# Altium footprint library ddrlegobrick.PcbLib: 29 footprints (part 2 of 2)
Each footprint in its own frame and in the unit in brackets; x right, y up, seen from the top. Pads: shape width x height; smd on the part's side, far side on the other; paste and mask are expansions set on the pad; w line width, h text height; cw(c..) or ccw(c..) is an arc to the next point about the centre after c.
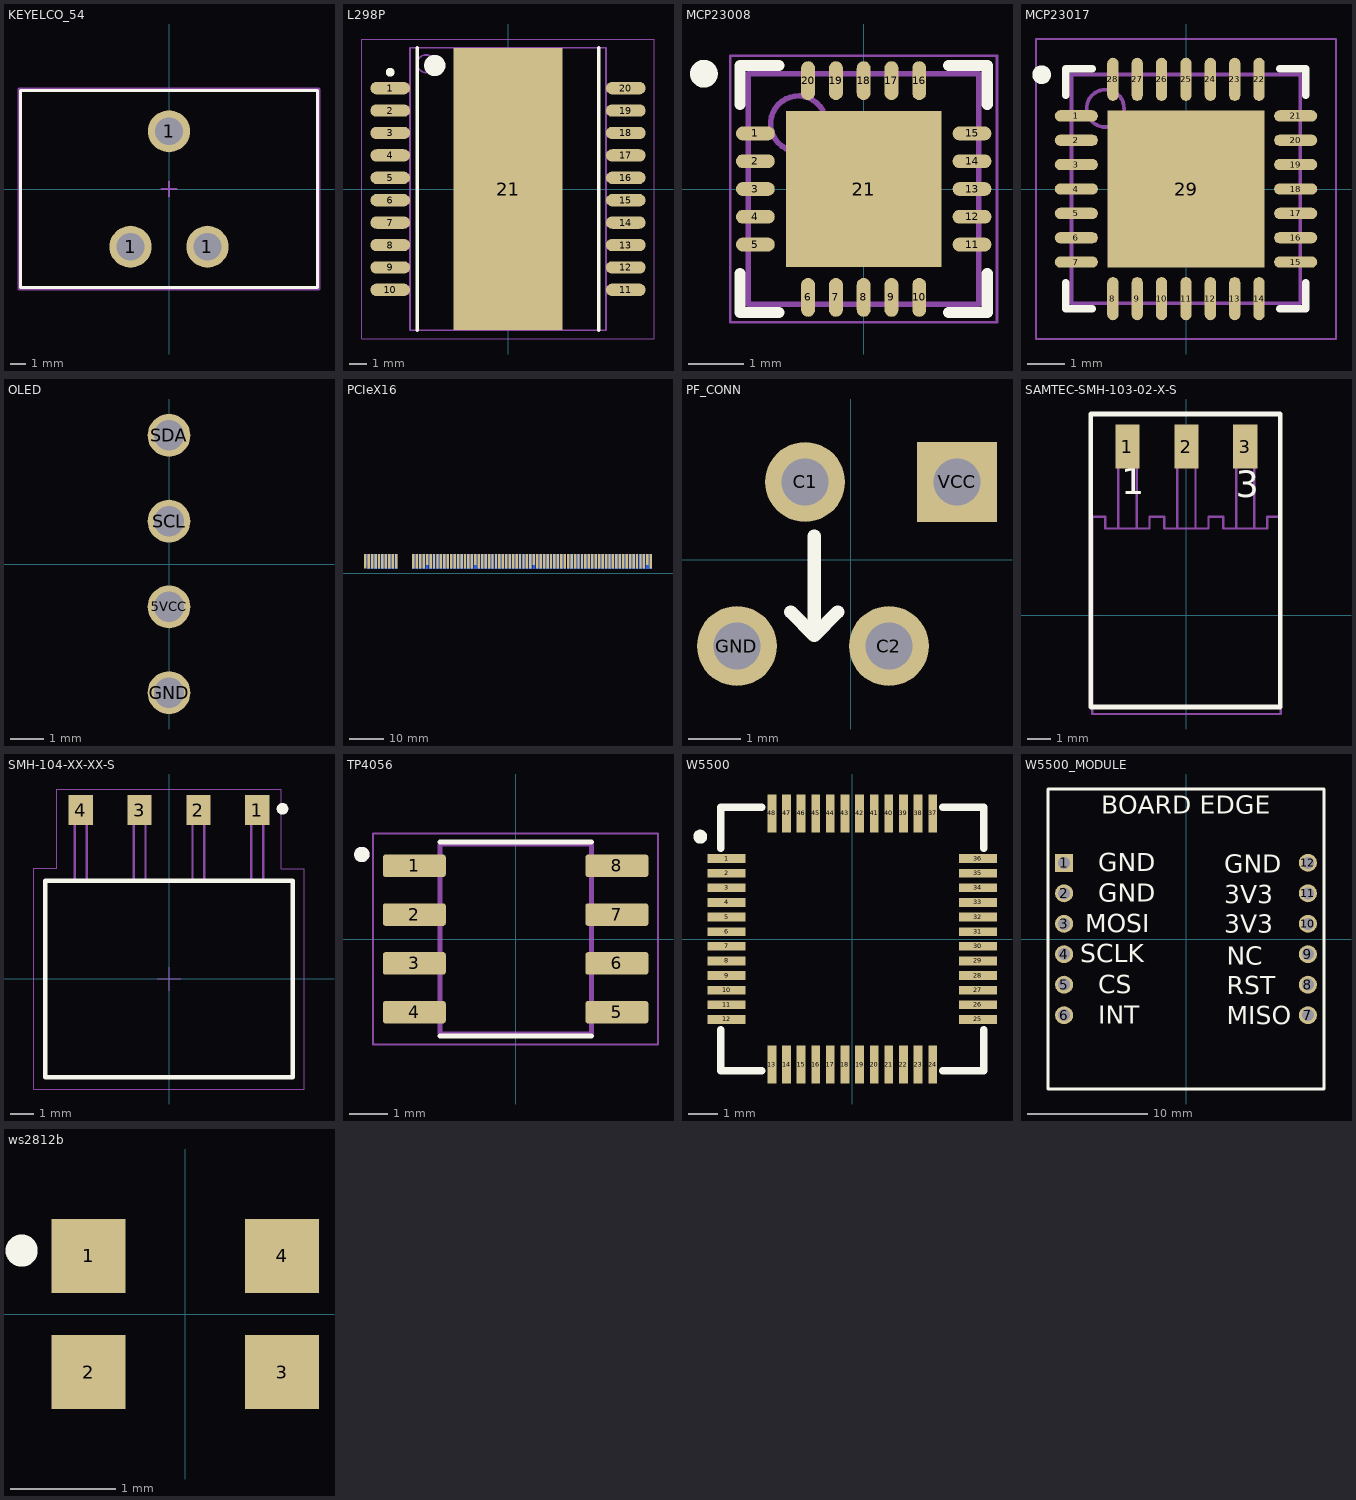
[diagram p1: the footprints below, top view; thin cyan lines are the x and y axes]

## KEYELCO_54 [mm]
pads (3):
  round 2.78 hole 1.83 paste-1000 mask+0: 1(-2.54,-3.81) 1(0,3.81) 1(2.54,-3.81)
Top Overlay:
  lines w0.2: -9.8,-6.5 -9.8,6.5 9.8,6.5 9.8,-6.5 -9.8,-6.5
Top 3D Body:
  lines w0.2: -9.8,-6.5 -9.8,6.5 9.8,6.5 9.8,-6.5 -9.8,-6.5
Top Courtyard:
  lines w0.2: -9.9,-6.6 -9.9,6.6 9.9,6.6 9.9,-6.6 -9.9,-6.6
Top Assembly:
  lines w0.2: -9.9,-6.6 -9.9,6.6 9.9,6.6 9.9,-6.6 -9.9,-6.6
  text ".Designator" at 0,0 h1
Top Component Center:
  lines w0.1: -0.5,0 0.5,0 ; 0,-0.5 0,0.5
3D body "KEYELCO_54.STEP": height 18.16, standoff -3.05, extent -9.443,-5.587 9.444,7.42

## L298P [mm] "SOIC, 20-Leads, Body 16x11.1mm, Pitch 1.27mm, Thermal Pad 16x6.2mm, IPC Low Density"
height 3.6
pads (21):
  oval 2.25x0.7 smd: 1(-6.675,5.715) 2(-6.675,4.445) 3(-6.675,3.175) 4(-6.675,1.905) 5(-6.675,0.635) 6(-6.675,-0.635) 7(-6.675,-1.905) 8(-6.675,-3.175) 9(-6.675,-4.445) 10(-6.675,-5.715) 11(6.675,-5.715) 12(6.675,-4.445) 13(6.675,-3.175) 14(6.675,-1.905) 15(6.675,-0.635) 16(6.675,0.635) 17(6.675,1.905) 18(6.675,3.175) 19(6.675,4.445) 20(6.675,5.715)
  rect 6.2x16 smd: 21(0,0)
Top Overlay:
  circle w0.6: c-4.15,7 r0.3
  circle w0.25: c-6.675,6.615 r0.125
  lines w0.2: -5.15,-8 -5.15,8 ; 5.15,-8 5.15,8
Mechanical 13:
  circle w0.1: c-4.65,7.1 r0.5
  lines w0.1: -5.55,-8 5.55,-8 5.55,8 -5.55,8 -5.55,-8
Mechanical 15:
  lines w0.05: -8.3,-8.5 8.3,-8.5 8.3,8.5 -8.3,8.5 -8.3,-8.5
  lines w0.1: -0.5,0 0.5,0 ; 0,-0.5 0,0.5
3D body "SOIC127P1420X360_HS-21M.step": height 3.6, standoff 0, extent -7.1,-8 7.1,8

## MCP23008 [mm] "QFN, 20-Leads, Body 4x4mm, Pitch 0.5mm, Thermal Pad 2.8x2.8mm, IPC High Density"
height 1
pads (21):
  oval 0.7x0.25 smd: 1(-1.95,1) 2(-1.95,0.5) 3(-1.95,0) 4(-1.95,-0.5) 5(-1.95,-1) 11(1.95,-1) 12(1.95,-0.5) 13(1.95,0) 14(1.95,0.5) 15(1.95,1)
  oval 0.25x0.7 smd: 6(-1,-1.95) 7(-0.5,-1.95) 8(0,-1.95) 9(0.5,-1.95) 10(1,-1.95) 16(1,1.95) 17(0.5,1.95) 18(0,1.95) 19(-0.5,1.95) 20(-1,1.95)
  rect 2.8x2.8 smd: 21(0,0)
Top Overlay:
  circle w0.25: c-2.875,2.075 r0.125
  lines w0.2: -2.225,-1.525 -2.225,-2.225 -1.525,-2.225 ; -2.225,1.525 -2.225,2.225 -1.525,2.225 ; 1.525,-2.225 2.225,-2.225 2.225,-1.525 ; 1.525,2.225 2.225,2.225 2.225,1.525
Mechanical 13:
  circle w0.1: c-1.175,1.175 r0.5
  lines w0.1: -2.075,-2.075 -2.075,2.075 2.075,2.075 2.075,-2.075 -2.075,-2.075
Mechanical 15:
  lines w0.05: -2.4,-2.4 -2.4,2.4 2.4,2.4 2.4,-2.4 -2.4,-2.4
  lines w0.1: -0.5,0 0.5,0 ; 0,-0.5 0,0.5
3D body: height 1, standoff 0, extent -2.075,-2.075 2.075,2.075

## MCP23017 [mm] "QFN, 28-Leads, Body 6x6mm, Pitch 0.65mm, Thermal Pad 4.2x4.2mm, IPC Low Density"
height 1
pads (29):
  oval 1.15x0.3 smd: 1(-2.925,1.95) 2(-2.925,1.3) 3(-2.925,0.65) 4(-2.925,0) 5(-2.925,-0.65) 6(-2.925,-1.3) 7(-2.925,-1.95) 15(2.925,-1.95) 16(2.925,-1.3) 17(2.925,-0.65) 18(2.925,0) 19(2.925,0.65) 20(2.925,1.3) 21(2.925,1.95)
  oval 0.3x1.15 smd: 8(-1.95,-2.925) 9(-1.3,-2.925) 10(-0.65,-2.925) 11(0,-2.925) 12(0.65,-2.925) 13(1.3,-2.925) 14(1.95,-2.925) 22(1.95,2.925) 23(1.3,2.925) 24(0.65,2.925) 25(0,2.925) 26(-0.65,2.925) 27(-1.3,2.925) 28(-1.95,2.925)
  rect 4.2x4.2 smd: 29(0,0)
Top Overlay:
  circle w0.25: c-3.85,3.05 r0.125
  lines w0.2: -3.2,-2.5 -3.2,-3.2 -2.5,-3.2 ; -3.2,2.5 -3.2,3.2 -2.5,3.2 ; 2.5,-3.2 3.2,-3.2 3.2,-2.5 ; 2.5,3.2 3.2,3.2 3.2,2.5
Mechanical 13:
  circle w0.1: c-2.15,2.15 r0.5
  lines w0.1: -3.05,-3.05 -3.05,3.05 3.05,3.05 3.05,-3.05 -3.05,-3.05
Mechanical 15:
  lines w0.05: -4,-4 -4,4 4,4 4,-4 -4,-4
  lines w0.1: -0.5,0 0.5,0 ; 0,-0.5 0,0.5
3D body: height 1, standoff 0, extent -3.05,-3.05 3.05,3.05

## OLED [mm]
pads (4):
  round 1.27 hole 0.9: 5VCC(0,-1.27) GND(0,-3.81) SCL(0,1.27) SDA(0,3.81)
3D body "4-Pin Header - Female - 2.54mm.step": height 5, standoff -3, extent -1.25,-5.33 1.25,5.33

## PCIeX16 [mm]
pads (160):
  rect 0.7x3.2 smd far side: A1(45.65,4)
  rect 0.7x4.2 smd far side: A2(46.65,3.5) A3(47.65,3.5) A4(48.65,3.5) A5(49.65,3.5) A6(50.65,3.5) A7(51.65,3.5) A8(52.65,3.5) A9(53.65,3.5) A10(54.65,3.5) A13(59.65,3.5) A14(60.65,3.5) A15(61.65,3.5) A16(62.65,3.5) A17(63.65,3.5) A18(64.65,3.5) A19(65.65,3.5) A20(66.65,3.5) A21(67.65,3.5) A22(68.65,3.5) A23(69.65,3.5) A24(70.65,3.5) A25(71.65,3.5) A26(72.65,3.5) A27(73.65,3.5) A28(74.65,3.5) A29(75.65,3.5) A30(76.65,3.5) A31(77.65,3.5) A32(78.65,3.5) A33(79.65,3.5) A34(80.65,3.5) A35(81.65,3.5) A36(82.65,3.5) A37(83.65,3.5) A38(84.65,3.5) A39(85.65,3.5) A40(86.65,3.5) A41(87.65,3.5) A42(88.65,3.5) A43(89.65,3.5) A44(90.65,3.5) A45(91.65,3.5) A46(92.65,3.5) A47(93.65,3.5) A48(94.65,3.5) A49(95.65,3.5) A50(96.65,3.5) A51(97.65,3.5) A52(98.65,3.5) A53(99.65,3.5) A54(100.65,3.5) A55(101.65,3.5) A56(102.65,3.5) A57(103.65,3.5) A58(104.65,3.5) A59(105.65,3.5) A60(106.65,3.5) A61(107.65,3.5) A62(108.65,3.5) A63(109.65,3.5) A64(110.65,3.5) A65(111.65,3.5) A66(112.65,3.5) A67(113.65,3.5) A68(114.65,3.5) A69(115.65,3.5) A70(116.65,3.5) A71(117.65,3.5) A72(118.65,3.5) A73(119.65,3.5) A74(120.65,3.5) A75(121.65,3.5) A76(122.65,3.5) A77(123.65,3.5) A78(124.65,3.5) A79(125.65,3.5) A80(126.65,3.5) A81(127.65,3.5) A82(128.65,3.5)
  rect 0.7x4.2 smd: B1(45.65,3.5) B2(46.65,3.5) B3(47.65,3.5) B4(48.65,3.5) B5(49.65,3.5) B6(50.65,3.5) B7(51.65,3.5) B8(52.65,3.5) B9(53.65,3.5) B10(54.65,3.5) B13(59.65,3.5) B14(60.65,3.5) B15(61.65,3.5) B16(62.65,3.5) B18(64.65,3.5) B19(65.65,3.5) B20(66.65,3.5) B21(67.65,3.5) B22(68.65,3.5) B23(69.65,3.5) B24(70.65,3.5) B25(71.65,3.5) B26(72.65,3.5) B27(73.65,3.5) B28(74.65,3.5) B29(75.65,3.5) B30(76.65,3.5) B32(78.65,3.5) B33(79.65,3.5) B34(80.65,3.5) B35(81.65,3.5) B36(82.65,3.5) B37(83.65,3.5) B38(84.65,3.5) B39(85.65,3.5) B40(86.65,3.5) B41(87.65,3.5) B42(88.65,3.5) B43(89.65,3.5) B44(90.65,3.5) B45(91.65,3.5) B46(92.65,3.5) B47(93.65,3.5) B49(95.65,3.5) B50(96.65,3.5) B51(97.65,3.5) B52(98.65,3.5) B53(99.65,3.5) B54(100.65,3.5) B55(101.65,3.5) B56(102.65,3.5) B57(103.65,3.5) B58(104.65,3.5) B59(105.65,3.5) B60(106.65,3.5) B61(107.65,3.5) B62(108.65,3.5) B63(109.65,3.5) B64(110.65,3.5) B65(111.65,3.5) B66(112.65,3.5) B67(113.65,3.5) B68(114.65,3.5) B69(115.65,3.5) B70(116.65,3.5) B71(117.65,3.5) B72(118.65,3.5) B73(119.65,3.5) B74(120.65,3.5) B75(121.65,3.5) B76(122.65,3.5) B77(123.65,3.5) B78(124.65,3.5) B79(125.65,3.5) B80(126.65,3.5) B82(128.65,3.5)
  rect 0.7x3.2 smd: B17(63.65,4) B31(77.65,4) B48(94.65,4) B81(127.65,4)
Top Solder:
  rectangle: 44.75,-0.25 129.55,5.725
Bottom Solder:
  rectangle: 44.75,-0.25 129.55,5.725

## PF_CONN [mm] "PF connector based on the RC brick design"
pads (4):
  round 1.524 hole 0.9: C1(-0.875,1.48) C2(0.725,-1.65) GND(-2.175,-1.65)
  rect 1.524x1.524 hole 0.9: VCC(2.025,1.48)
Top Overlay:
  lines w0.254: -1.15,-1 -0.7,-1.45 ; -0.7,0.45 -0.7,-1.45 ; -0.25,-1 -0.7,-1.45
3D body "1x1_TH_Vert_100mil_updated.STEP": height 9.38, standoff -2.3, extent -3.445,-2.92 -0.905,-0.38
3D body "1x1_TH_Vert_100mil_updated.STEP": height 9.38, standoff -2.3, extent 0.755,0.21 3.295,2.75
3D body "1x1_TH_Vert_100mil_updated.STEP": height 9.38, standoff -2.3, extent -2.145,0.21 0.395,2.75
3D body "1x1_TH_Vert_100mil_updated.STEP": height 9.38, standoff -2.3, extent -0.545,-2.92 1.995,-0.38

## SAMTEC-SMH-103-02-X-S [mil]
pads (3):
  rect 40.95x75.2 smd: 1(-100,286.5) 2(0,286.5) 3(100,286.5)
Top Overlay:
  lines w7.87: -162.4,-155.51 -162.4,341.85 159.45,341.85 159.45,-155.51 -162.4,-155.51
  text "1" at -110.24,189.96 h77.5
  text "3" at 83.66,185.04 h77.5
Top Paste:
  rectangle: -120.47,248.9 -79.53,324.09
  rectangle: -20.47,248.9 20.47,324.09
  rectangle: 79.53,248.9 120.47,324.09
Top Solder:
  rectangle: -122.48,246.89 -77.52,326.1
  rectangle: -22.48,246.89 22.48,326.1
  rectangle: 77.52,246.89 122.48,326.1
Top Component Center:
  lines w3.94: -115.51,147.48 -115.51,302.52 -84.49,302.52 -84.49,147.48 ; -15.51,147.48 -15.51,302.52 15.51,302.52 15.51,147.48 ; 84.49,147.48 84.49,302.52 115.51,302.52 115.51,147.48 ; -160,-167.48 -50,-167.48 50,-167.48 160,-167.48 160,167.48 137.48,167.48 137.48,147.48 62.52,147.48 62.52,167.48 50,167.48 37.48,167.48 37.48,147.48 -37.48,147.48 -37.48,167.48 -50,167.48 -62.52,167.48 -62.52,147.48 -137.48,147.48 -137.48,167.48 -160,167.48 -160,-167.48
  text "1" at -231.65,261.5 h77.5
  text "3" at 191.14,261.5 h77.5
3D body "SMH-103-02-G-S.stp": height 95.5, standoff 0.5, extent -160,-154.88 160,315.12

## SMH-104-XX-XX-S [mm] "2.54mm pitch, socket assembly; horizontal, single row, SMT"
height 4.95
pads (4):
  rect 1.05x1.3 smd mask+0: 1(3.81,7.29) 2(1.27,7.29) 3(-1.27,7.29) 4(-3.81,7.29)
Top Overlay:
  circle w0.25: c4.9,7.35 r0.125
  lines w0.2: -5.35,-4.25 5.35,-4.25 5.35,4.25 -5.35,4.25 -5.35,-4.25
Mechanical 12:
  lines w0.001: -5.35,-4.25 5.35,-4.25 5.35,4.25 -5.35,4.25 -5.35,-4.25
Mechanical 13:
  lines w0.1: -4.064,4.267 -4.064,7.62 -3.556,7.62 -3.556,4.267 ; -1.524,4.267 -1.524,7.62 -1.016,7.62 -1.016,4.267 ; 1.016,4.267 1.016,7.62 1.524,7.62 1.524,4.267 ; 3.556,4.267 3.556,7.62 4.064,7.62 4.064,4.267 ; -5.35,-4.25 5.35,-4.25 5.35,4.25 -5.35,4.25 -5.35,-4.25
Mechanical 15:
  lines w0.05: -0.5,0 0.5,0 ; 0,-0.5 0,0.5 ; -5.85,-4.75 5.85,-4.75 5.85,4.75 4.85,4.75 4.85,8.204 -4.85,8.204 -4.85,4.775 -5.85,4.775 -5.85,-4.75
3D body "SMH-104-02-T-S.stp": height 2.43, standoff 0.01, extent -5.334,-4.509 5.334,7.429

## TP4056 [mm]
pads (8):
  rrect25% 1.64x0.59 smd: 1(-2.635,1.905) 2(-2.635,0.635) 3(-2.635,-0.635) 4(-2.635,-1.905) 5(2.635,-1.905) 6(2.635,-0.635) 7(2.635,0.635) 8(2.635,1.905)
Top Overlay:
  circle w0.2: c-4,2.2 r0.1
  lines w0.127: -1.97,-2.52 1.97,-2.52 ; -1.97,2.52 1.97,2.52
Mechanical 13:
  circle w0.2: c-4,2.2 r0.1
  lines w0.127: -1.97,-2.465 -1.97,2.465 1.97,2.465 1.97,-2.465 -1.97,-2.465
Mechanical 15:
  lines w0.05: -3.705,-2.74 -3.705,2.74 3.705,2.74 3.705,-2.74 -3.705,-2.74
3D body "S08.stp": height 1.55, standoff 0, extent -3,-2.455 3,2.445

## W5500 [mm]
pads (48):
  rect 1.3x0.3 smd mask+0.05: 1(-4.3,2.75) 2(-4.3,2.25) 3(-4.3,1.75) 4(-4.3,1.25) 5(-4.3,0.75) 6(-4.3,0.25) 7(-4.3,-0.25) 8(-4.3,-0.75) 9(-4.3,-1.25) 10(-4.3,-1.75) 11(-4.3,-2.25) 12(-4.3,-2.75) 25(4.3,-2.75) 26(4.3,-2.25) 27(4.3,-1.75) 28(4.3,-1.25) 29(4.3,-0.75) 30(4.3,-0.25) 31(4.3,0.25) 32(4.3,0.75) 33(4.3,1.25) 34(4.3,1.75) 35(4.3,2.25) 36(4.3,2.75)
  rect 0.3x1.3 smd mask+0.05: 13(-2.75,-4.3) 14(-2.25,-4.3) 15(-1.75,-4.3) 16(-1.25,-4.3) 17(-0.75,-4.3) 18(-0.25,-4.3) 19(0.25,-4.3) 20(0.75,-4.3) 21(1.25,-4.3) 22(1.75,-4.3) 23(2.25,-4.3) 24(2.75,-4.3) 37(2.75,4.3) 38(2.25,4.3) 39(1.75,4.3) 40(1.25,4.3) 41(0.75,4.3) 42(0.25,4.3) 43(-0.25,4.3) 44(-0.75,4.3) 45(-1.25,4.3) 46(-1.75,4.3) 47(-2.25,4.3) 48(-2.75,4.3)
Top Overlay:
  circle w0.254: c-5.2,3.5 r0.112
  lines w0.254: -4.5,-3.1 -4.5,-4.5 -3.1,-4.5 ; -4.5,3.1 -4.5,4.5 -3.1,4.5 ; 3.1,-4.5 4.5,-4.5 4.5,-3.1 ; 3.1,4.5 4.5,4.5 4.5,3.1
3D body "LQFP-48_7x7mm_P0.5mm.step": height 1.5, standoff 0, extent -4.5,-4.5 4.5,4.5

## W5500_MODULE [mm]
pads (12):
  rect 1.5x1.5 hole 1: 1(-10.16,6.35)
  round 1.5 hole 1: 2(-10.16,3.81) 3(-10.16,1.27) 4(-10.16,-1.27) 5(-10.16,-3.81) 6(-10.16,-6.35) 7(10.16,-6.35) 8(10.16,-3.81) 9(10.16,-1.27) 10(10.16,1.27) 11(10.16,3.81) 12(10.16,6.35)
Top Overlay:
  lines w0.254: -11.5,-12.5 -11.5,12.5 11.5,12.5 11.5,-12.5 -11.5,-12.5
  text "BOARD EDGE" at -7.05,10.45 h1.52
  text "GND" at -7.3,5.65 h1.52
  text "GND" at -7.3,3.11 h1.52
  text "MOSI" at -8.4,0.55 h1.52
  text "SCLK" at -8.8,-1.95 h1.52
  text "CS" at -7.3,-4.51 h1.52
  text "INT" at -7.3,-7.05 h1.52
  text "MISO" at 3.4,-7.1 h1.52
  text "RST" at 3.4,-4.6 h1.52
  text "NC" at 3.4,-2.15 h1.52
  text "3V3" at 3.2,0.5 h1.52
  text "3V3" at 3.2,2.96 h1.52
  text "GND" at 3.2,5.5 h1.52

## ws2812b [mm]
pads (4):
  rect 0.7x0.7 smd: 1(-0.915,0.55) 2(-0.915,-0.55) 3(0.915,-0.55) 4(0.915,0.55)
Top Overlay:
  circle w0.254: c-1.55,0.6 r0.025
3D body "WS2812-2020.STEP": height 0.87, standoff 0.01, extent -1.1,-1 1.1,1